# Altium footprint library LoRa_module_PcbLib.PcbLib: 3 footprints
Each footprint in its own frame and in the unit in brackets; x right, y up, seen from the top. Pads: shape width x height; smd on the part's side, far side on the other; paste and mask are expansions set on the pad; w line width, h text height; cw(c..) or ccw(c..) is an arc to the next point about the centre after c.
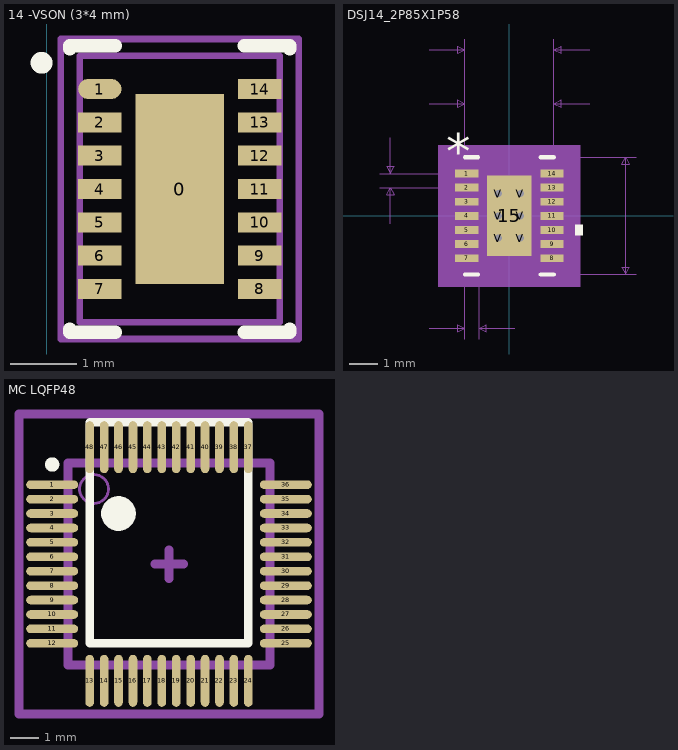
[diagram p0: the footprints below, top view; thin cyan lines are the x and y axes]

## 14 -VSON (3*4 mm) [mm]
pads (15):
  rect 1.33x2.85 smd: 0(1.998,-19.521)
  oval 0.65x0.3 smd: 1(0.798,-18.021)
  rect 0.65x0.3 smd: 2(0.798,-18.521) 3(0.798,-19.021) 4(0.798,-19.521) 5(0.798,-20.021) 6(0.798,-20.521) 7(0.798,-21.021) 8(3.198,-21.021) 9(3.198,-20.521) 10(3.198,-20.021) 11(3.198,-19.521) 12(3.198,-19.021) 13(3.198,-18.521) 14(3.198,-18.021)
Top Overlay:
  circle w0.254: c-0.076,-17.628 r0.036
  lines w0.2: 0.348,-21.621 0.348,-21.671 1.033,-21.671 ; 0.348,-17.421 0.348,-17.371 1.033,-17.371 ; 2.963,-21.671 3.648,-21.671 3.648,-21.621 ; 2.963,-17.371 3.648,-17.371 3.648,-17.421
Mechanical 1:
  lines w0.1: 0.498,-21.521 3.498,-21.521 3.498,-17.521 0.498,-17.521 0.498,-21.521
Mechanical 15:
  lines w0.1: 1.498,-19.521 2.498,-19.521 ; 1.998,-20.021 1.998,-19.021 ; 0.213,-21.771 3.783,-21.771 3.783,-17.271 0.213,-17.271 0.213,-21.771
3D body: height 0.9, standoff 0.08, extent 0.498,-21.52 3.498,-17.52

## DSJ14_2P85X1P58 [mm]
pads (21):
  rect 0.82x0.28 smd paste-0.397: 1(-1.51,1.5) 2(-1.51,1) 3(-1.51,0.5) 4(-1.51,0) 5(-1.51,-0.5) 6(-1.51,-1) 7(-1.51,-1.5) 8(1.51,-1.5) 9(1.51,-1) 10(1.51,-0.5) 11(1.51,0) 12(1.51,0.5) 13(1.51,1) 14(1.51,1.5)
  rect 1.58x2.85 smd paste-1.412 mask-1.41: 15(0,0)
  round 0.508 hole 0.254: V(-0.394,-0.787) V(-0.394,0) V(-0.394,0.787) V(0.394,-0.787) V(0.394,0) V(0.394,0.787)
Top Overlay:
  region: 2.337,-0.309 2.591,-0.309 2.591,-0.69 2.337,-0.69
  lines w0.152: -1.575,-2.075 -1.11,-2.075 ; -1.575,2.075 -1.11,2.075 ; 1.11,-2.075 1.575,-2.075 ; 1.11,2.075 1.575,2.075
  text "*" at -2.244,1.653 h1.27
Top Paste:
  drawing of 34 lines, arcs and shapes, not listed
Top Solder:
  region: 0.594,-1.488 0.594,1.488 0.854,1.488 0.854,-1.488
  region: 0.194,-1.488 0.194,1.488 -0.194,1.488 -0.194,-1.488
  region: -0.854,-1.488 -0.854,1.488 -0.594,1.488 -0.594,-1.488
  region: -0.854,-1.488 -0.854,-0.987 0.854,-0.987 0.854,-1.488
  region: -0.854,-0.587 -0.854,-0.2 0.854,-0.2 0.854,-0.587
  region: -0.854,0.2 -0.854,0.587 0.854,0.587 0.854,0.2
  region: -0.854,0.987 -0.854,1.488 0.854,1.488 0.854,0.987
  region: 0.458,-2.077 0.458,-1.323 0.892,-1.323 0.892,-2.077
  region: -0.458,-2.077 -0.458,-1.323 -0.892,-1.323 -0.892,-2.077
  region: 0.008,-2.077 0.008,-1.323 0.442,-1.323 0.442,-2.077
  region: -0.008,-2.077 -0.008,-1.323 -0.442,-1.323 -0.442,-2.077
  region: 0.458,2.077 0.458,1.323 0.892,1.323 0.892,2.077
  region: -0.458,2.077 -0.458,1.323 -0.892,1.323 -0.892,2.077
  region: 0.008,2.077 0.008,1.323 0.442,1.323 0.442,2.077
  region: -0.008,2.077 -0.008,1.323 -0.442,1.323 -0.442,2.077
  region: 1.92,1.64 1.1,1.64 1.1,1.36 1.92,1.36
  region: 1.92,1.14 1.1,1.14 1.1,0.86 1.92,0.86
  region: 1.92,0.64 1.1,0.64 1.1,0.36 1.92,0.36
  region: 1.92,0.14 1.1,0.14 1.1,-0.14 1.92,-0.14
  region: 1.92,-0.36 1.1,-0.36 1.1,-0.64 1.92,-0.64
  region: 1.92,-0.86 1.1,-0.86 1.1,-1.14 1.92,-1.14
  region: 1.92,-1.36 1.1,-1.36 1.1,-1.64 1.92,-1.64
  region: -1.1,-1.36 -1.92,-1.36 -1.92,-1.64 -1.1,-1.64
  region: -1.1,-0.86 -1.92,-0.86 -1.92,-1.14 -1.1,-1.14
  region: -1.1,-0.36 -1.92,-0.36 -1.92,-0.64 -1.1,-0.64
  region: -1.1,0.14 -1.92,0.14 -1.92,-0.14 -1.1,-0.14
  region: -1.1,0.64 -1.92,0.64 -1.92,0.36 -1.1,0.36
  region: -1.1,1.14 -1.92,1.14 -1.92,0.86 -1.1,0.86
  region: -1.1,1.64 -1.92,1.64 -1.92,1.36 -1.1,1.36
Mechanical 5:
  region: 2.515,-2.507 -2.515,-2.507 -2.515,2.507 2.515,2.507
Mechanical 7:
  lines w0.025: -4.594,1 -1.673,1 ; -4.594,1.5 -1.673,1.5 ; -4.213,-0.27 -4.213,1 ; -4.213,2.77 -4.213,1.5 ; -2.845,-3.98 -1.575,-3.98 ; -2.845,3.98 -1.575,3.98 ; -2.845,5.885 -1.575,5.885 ; -1.575,-4.361 -1.575,0 ; -1.575,4.361 -1.575,0 ; -1.575,6.266 -1.575,0 ; -1.075,-4.361 -1.075,0 ; 0,-2.075 4.496,-2.075 ; 0,2.075 4.496,2.075 ; 0.195,-3.98 -1.075,-3.98 ; 1.575,4.361 1.575,0 1.575,6.266 ; 2.845,3.98 1.575,3.98 ; 2.845,5.885 1.575,5.885 ; -4.213,1 -4.086,0.746 -4.34,0.746 -4.213,1 ; -4.213,1.5 -4.086,1.754 -4.34,1.754 -4.213,1.5 ; -1.575,-3.98 -1.829,-4.107 -1.829,-3.853 -1.575,-3.98 ; -1.575,3.98 -1.829,3.853 -1.829,4.107 -1.575,3.98 ; -1.575,5.885 -1.829,5.758 -1.829,6.012 -1.575,5.885 ; -1.075,-3.98 -0.821,-4.107 -0.821,-3.853 -1.075,-3.98 ; 1.575,3.98 1.829,3.853 1.829,4.107 1.575,3.98 ; 1.575,5.885 1.829,5.758 1.829,6.012 1.575,5.885 ; 4.115,-2.075 4.242,-1.821 3.988,-1.821 4.115,-2.075 ; 4.115,-2.075 4.115,2.075 ; 4.115,2.075 4.242,1.821 3.988,1.821 4.115,2.075
  text "1.968504E-02in/.5mm" at -4.341,-5.123 h0.64
  text "1.968504E-02in/.5mm" at -10.753,0.933 h0.64
  text ".1633858in/4.15mm" at 4.623,-0.318 h0.64
  text ".1240157in/3.15mm" at -2.699,6.393 h0.64
  text ".1240157in/3.15mm" at -2.699,4.488 h0.64
  text "Alt 2 Padstyle: OX229Y152D76P" at -9.207,-12.87 h1.27
  text "Alt 1 Padstyle: OX152Y229D76P" at -9.207,-10.965 h1.27
  text "Pin One Padstyle: RX82Y28D0T" at -8.89,-9.06 h1.27
  text "Default Padstyle: RX82Y28D0T" at -8.89,-7.155 h1.27
Mechanical 13:
  lines w0: -0.305,2.075 ccw(c0,2.075) 0.305,2.075
  lines w0.025: -1.575,-2.075 -1.575,2.075 1.575,2.075 1.575,-2.075 -1.575,-2.075 ; -1.575,-1.65 -1.575,-1.35 -1.575,-1.65 ; -1.575,-1.15 -1.575,-0.85 -1.575,-1.15 ; -1.575,-0.65 -1.575,-0.35 -1.575,-0.65 ; -1.575,-0.15 -1.575,0.15 -1.575,-0.15 ; -1.575,0.35 -1.575,0.65 -1.575,0.35 ; -1.575,0.85 -1.575,1.15 -1.575,0.85 ; -1.575,1.35 -1.575,1.65 -1.575,1.35 ; 1.575,-1.65 1.575,-1.35 1.575,-1.65 ; 1.575,-1.15 1.575,-0.85 1.575,-1.15 ; 1.575,-0.65 1.575,-0.35 1.575,-0.65 ; 1.575,-0.15 1.575,0.15 1.575,-0.15 ; 1.575,0.35 1.575,0.65 1.575,0.35 ; 1.575,0.85 1.575,1.15 1.575,0.85 ; 1.575,1.35 1.575,1.65 1.575,1.35
  text "*" at -2.244,1.653 h1.27
Mechanical 15:
  region: 2.134,-2.126 -2.134,-2.126 -2.134,2.126 2.134,2.126
  lines w0.152: -2.134,-2.126 2.134,-2.126 2.134,2.126 -2.134,2.126 -2.134,-2.126
3D body: height 0.25, standoff 0, extent 0,0 0.254,0.254

## MC LQFP48 [mm] "MC"
height 1.6
pads (48):
  oval 1.8x0.3 smd: 1(307.432,210.341) 2(307.432,209.841) 3(307.432,209.341) 4(307.432,208.841) 5(307.432,208.341) 6(307.432,207.841) 7(307.432,207.341) 8(307.432,206.841) 9(307.432,206.341) 10(307.432,205.841) 11(307.432,205.341) 12(307.432,204.841) 25(315.532,204.841) 26(315.532,205.341) 27(315.532,205.841) 28(315.532,206.341) 29(315.532,206.841) 30(315.532,207.341) 31(315.532,207.841) 32(315.532,208.341) 33(315.532,208.841) 34(315.532,209.341) 35(315.532,209.841) 36(315.532,210.341)
  oval 0.3x1.8 smd: 13(308.732,203.541) 14(309.232,203.541) 15(309.732,203.541) 16(310.232,203.541) 17(310.732,203.541) 18(311.232,203.541) 19(311.732,203.541) 20(312.232,203.541) 21(312.732,203.541) 22(313.232,203.541) 23(313.732,203.541) 24(314.232,203.541) 37(314.232,211.641) 38(313.732,211.641) 39(313.232,211.641) 40(312.732,211.641) 41(312.232,211.641) 42(311.732,211.641) 43(311.232,211.641) 44(310.732,211.641) 45(310.232,211.641) 46(309.732,211.641) 47(309.232,211.641) 48(308.732,211.641)
Top Overlay:
  circle w0.6: c309.732,209.341 r0.3
  circle w0.25: c307.432,211.041 r0.125
  lines w0.3: 308.732,204.841 314.232,204.841 314.232,212.5 308.732,212.5 308.732,204.841
Mechanical 13:
  circle w0.1: c308.882,210.191 r0.5
  lines w0.3: 307.982,204.091 314.982,204.091 314.982,211.091 307.982,211.091 307.982,204.091
Mechanical 15:
  lines w0.3: 310.982,207.591 311.982,207.591 ; 311.482,207.091 311.482,208.091 ; 306.282,202.391 316.682,202.391 316.682,212.791 306.282,212.791 306.282,202.391
3D body: height 1.6, standoff 0, extent 307.98,204.094 314.98,211.094